# Altium footprint library Lab03.PcbLib: 6 footprints
Each footprint in its own frame and in the unit in brackets; x right, y up, seen from the top. Pads: shape width x height; smd on the part's side, far side on the other; paste and mask are expansions set on the pad; w line width, h text height; cw(c..) or ccw(c..) is an arc to the next point about the centre after c.
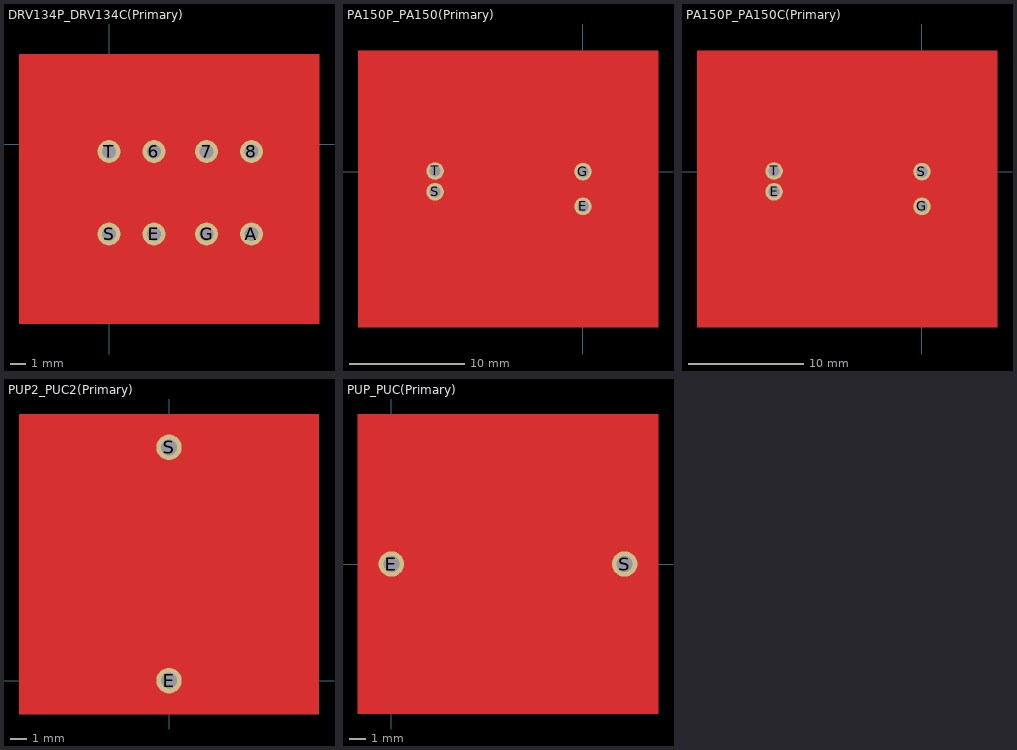
[diagram p0: the footprints below, top view; thin cyan lines are the x and y axes]

## DRV134P_DRV134C(Primary) [mil]
pads (8):
  round 60 hole 38: 6(118.11,-19.68) 7(255.91,-19.68) 8(374.02,-19.68) A(374.02,-236.22) E(118.11,-236.22) G(255.91,-236.22) S(0,-236.22) T(0,-19.68)
Top Layer:
  pour cut-out: -236.22,236.22 -236.22,-472.44 551.18,-472.44 551.18,236.22
  lines w10: -64.57,-277.17 435.43,-277.17 435.43,22.83 -64.57,22.83 -64.57,-277.17

## PA150P_PA150(Primary) [mil]
pads (4):
  round 60 hole 38: E(0,-118.11) G(0,0) S(-504.72,-68.5) T(-504.72,2.36)
Top Layer:
  circle w10: c-505.51,-37.8 r100
  circle w10: c-1.57,-57.48 r100
  pour cut-out: -767.72,413.39 -767.72,-531.5 255.91,-531.5 255.91,413.39
  lines w10: -630.71,-307.09 169.29,-307.09 169.29,192.91 -630.71,192.91 -630.71,-307.09

## PA150P_PA150C(Primary) [mil]
pads (4):
  round 60 hole 38: E(-504.72,-68.5) G(0,-118.11) S(0,0) T(-504.72,2.36)
Top Layer:
  circle w10: c-505.51,-37.8 r100
  circle w10: c-1.57,-57.48 r100
  pour cut-out: -767.72,413.39 -767.72,-531.5 255.91,-531.5 255.91,413.39
  lines w10: -630.71,-307.09 169.29,-307.09 169.29,192.91 -630.71,192.91 -630.71,-307.09

## PCBComponent_1 [mil]

## PUP2_PUC2(Primary) [mil]
pads (2):
  round 60 hole 38: E(0,0) S(0,551.18)
Top Layer:
  pour cut-out: -354.33,-78.74 354.33,-78.74 354.33,629.92 -354.33,629.92
  lines w10: -152.76,92.13 147.24,92.13 147.24,492.13 -152.76,492.13 -152.76,92.13

## PUP_PUC(Primary) [mil]
pads (2):
  round 60 hole 38: E(0,0) S(551.18,0)
Top Layer:
  pour cut-out: -78.74,354.33 -78.74,-354.33 629.92,-354.33 629.92,354.33
  lines w10: 92.13,-147.24 492.13,-147.24 492.13,152.76 92.13,152.76 92.13,-147.24